# EAGLE library part IP2326 (library IP2326_Module)
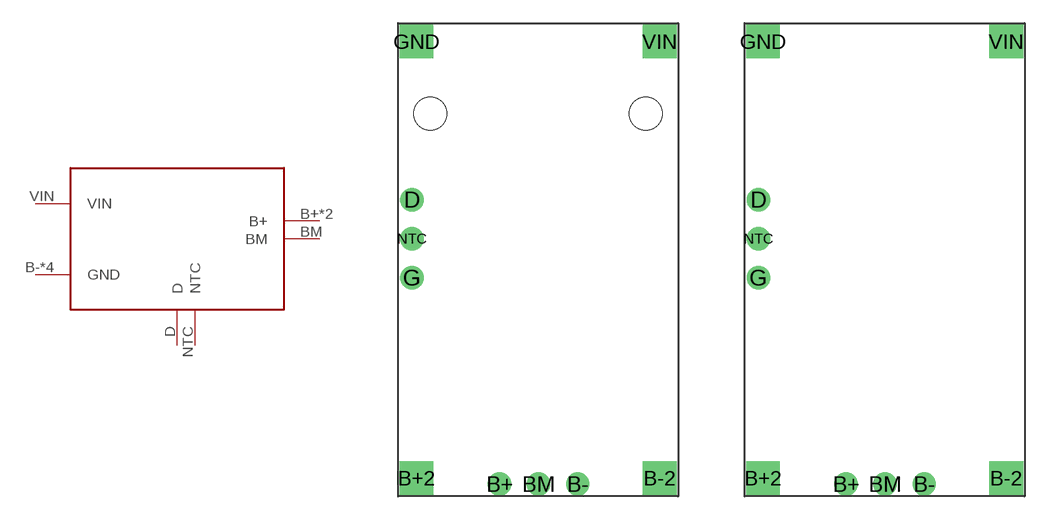
[diagram p0: symbol with the pads of IP2326; footprints IP2326, IP2326_NOHOLES]

Designator prefix -

## IP2326  [IP2326]
B+  B+
B+2  B+
B-  GND
B-2  GND
BM  BM
D  D
G  GND
GND  GND
NTC  NTC
VIN  VIN

## IP2326NOHOLES  [IP2326_NOHOLES]
Pads as for IP2326

## Footprint IP2326 (pad centres in mm)
drill 1.016: B+ -2.5,-15; B- 2.58,-15; BM 0.04,-15; D -8.2,3.5; G -8.2,-1.58; NTC -8.2,0.96
drill 1.016 pad 2.2 square: B+2 -7.9,-14.6; B-2 7.9,-14.6; GND -7.9,13.8; VIN 7.9,13.8
hole 2.15 at -7,9.1
hole 2.15 at 7,9.1

## Footprint IP2326_NOHOLES (pad centres in mm)
drill 1.016: B+ -2.5,-15; B- 2.58,-15; BM 0.04,-15; D -8.2,3.5; G -8.2,-1.58; NTC -8.2,0.96
drill 1.016 pad 2.2 square: B+2 -7.9,-14.6; B-2 7.9,-14.6; GND -7.9,13.8; VIN 7.9,13.8